# Altium footprint library PCB - RESISTOR - CHIP - YAGEO 01005.PcbLib: 1 footprints
Each footprint in its own frame and in the unit in brackets; x right, y up, seen from the top. Pads: shape width x height; smd on the part's side, far side on the other; paste and mask are expansions set on the pad; w line width, h text height; cw(c..) or ccw(c..) is an arc to the next point about the centre after c.
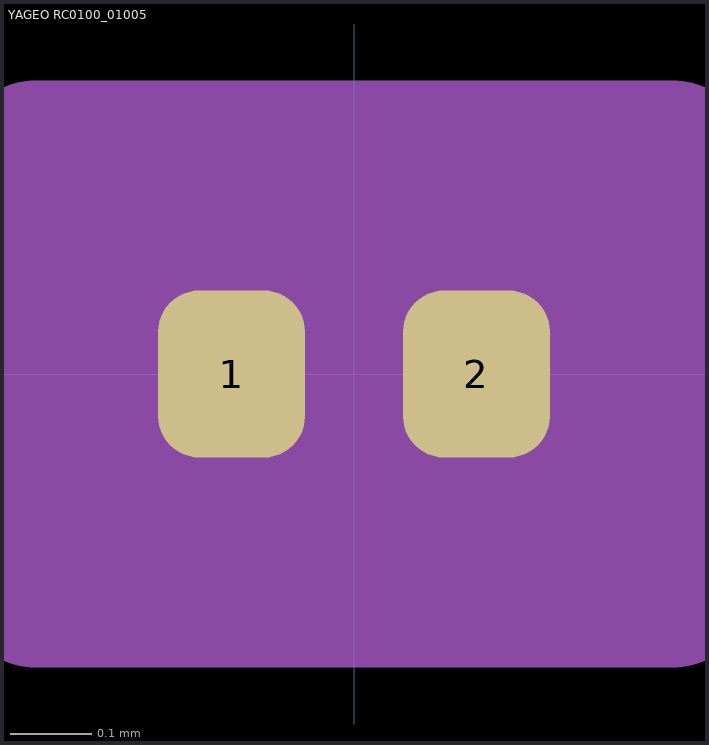
[diagram p0: the footprint, top view; thin cyan lines are the x and y axes]

## YAGEO RC0100_01005 [mm] "Resistor, Chip; 0.40 mm L X 0.20 mm W X 0.13 mm H body"
height 0.13
pads (2):
  rrect56% 0.18x0.205 smd: 1(-0.15,0) 2(0.15,0)
Mechanical 11:
  lines w0.2: -0.21,-0.11 0.21,-0.11 0.21,0.11 -0.21,0.11 -0.21,-0.11
Mechanical 12:
  lines w0.2: -0.2,-0.1 0.2,-0.1 ; -0.2,-0.1 -0.2,0.1 ; -0.2,-0.1 -0.2,0.1 ; -0.2,-0.1 -0.1,-0.1 -0.1,0.1 -0.2,0.1 ; -0.2,0.1 0.2,0.1 ; 0.2,-0.1 0.2,0.1 ; 0.2,-0.1 0.1,-0.1 0.1,0.1 0.2,0.1 ; 0.2,-0.1 0.2,0.1
Mechanical 15:
  circle w0.2: c0,0 r0.098
  lines w0.2: -0.13,0 0.13,0 ; 0,-0.13 0,0.13 ; -0.39,-0.26 0.39,-0.26 0.39,0.26 -0.39,0.26 -0.39,-0.26
3D body "RC0100JR-0710KL.STEP": height 0.13, standoff 0, extent -0.2,-0.1 0.2,0.1